# Altium footprint library N0604N-S19-AY.PcbLib: 1 footprints
Each footprint in its own frame and in the unit in brackets; x right, y up, seen from the top. Pads: shape width x height; smd on the part's side, far side on the other; paste and mask are expansions set on the pad; w line width, h text height; cw(c..) or ccw(c..) is an arc to the next point about the centre after c.
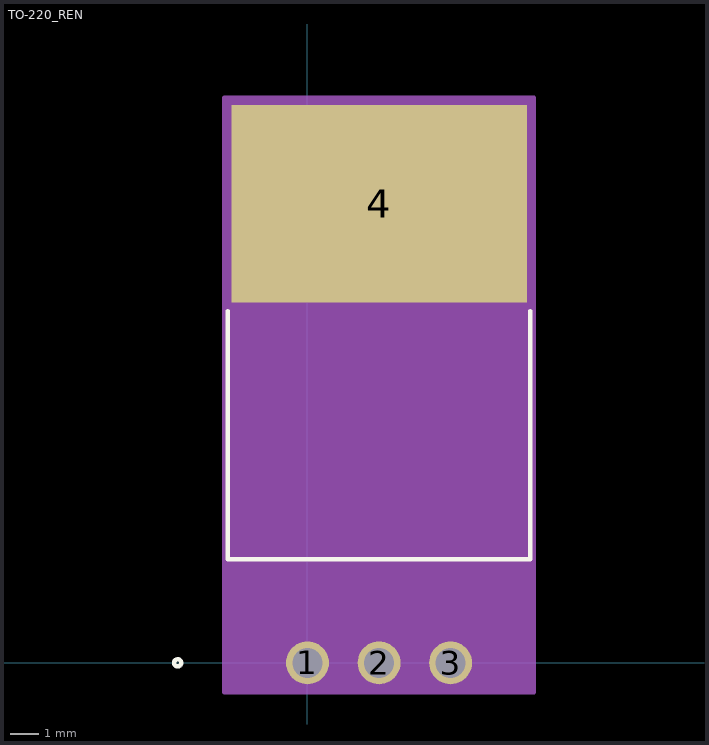
[diagram p0: the footprint, top view; thin cyan lines are the x and y axes]

## TO-220_REN [mil]
pads (4):
  round 60 / inner round 60 / far side round 62 hole 42 paste-31 mask+0: 1(0,0) 2(100,0) 3(200,0)
  rect 413x276 smd paste+0 mask+0: 4(100,642)
Top Overlay:
  circle w6: c-181.5,0 r5
  lines w6: -111.5,491.89 -111.5,145 311.5,145 311.5,491.89
Mechanical 13:
  circle w0: c-96.5,20 r5
  lines w1: -106.5,150 -106.5,504 306.5,504 306.5,150 -106.5,150
Mechanical 15:
  region: 316.5,790 -116.5,790 -116.5,-41 316.5,-41
  lines w6: -116.5,-41 316.5,-41 316.5,790 -116.5,790 -116.5,-41
3D body "TO-220_REN.step": height 179.09, standoff -100, extent -106.5,-7.99 306.5,505.98
3D body "TO-220_REN.step": height 179.09, standoff -100, extent -106.5,-7.99 306.5,505.98